# Altium schematic symbol library FJX597JH.Schlib: 1 symbol
Pins are listed as number, name and electrical type; pins without a type are passive.

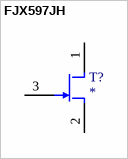
[diagram p0: symbol FJX597JH]

## FJX597JH
designator T?
Si N-channel Junction FET
footprint SOT-323
pins: 1 D, 2 S, 3 G